# EAGLE library part ZX62D-B-5P8 (library con-hirose-microusb)
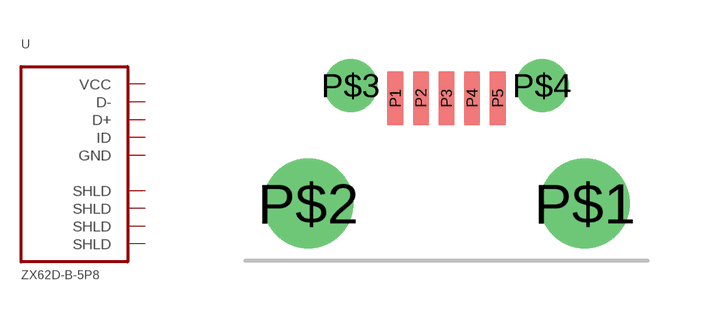
[diagram p0: symbol with the pads of ZX62D-B-5P8; footprint ZX62D-B-5P8]

Designator prefix -

## ZX62D-B-5P8  [ZX62D-B-5P8]
P1  VCC  pwr
P2  D-
P3  D+
P4  ID
P5  GND  pwr
P$1  SHLD  pwr
P$2  SHLD  pwr
P$3  SHLD  pwr
P$4  SHLD  pwr

## Footprint ZX62D-B-5P8 (pad centres in mm)
smd 0.4 x 1.35: P1 -1.3,2.675; P2 -0.65,2.675; P3 0,2.675; P4 0.65,2.675; P5 1.3,2.675
drill 1.524: P$1 3.51,0; P$2 -3.51,0
drill 0.838: P$3 -2.425,3; P$4 2.425,3